# Altium integrated library TI Data Converters Digital to Analog Converter.IntLib: 1533 symbols (part 26 of 99)
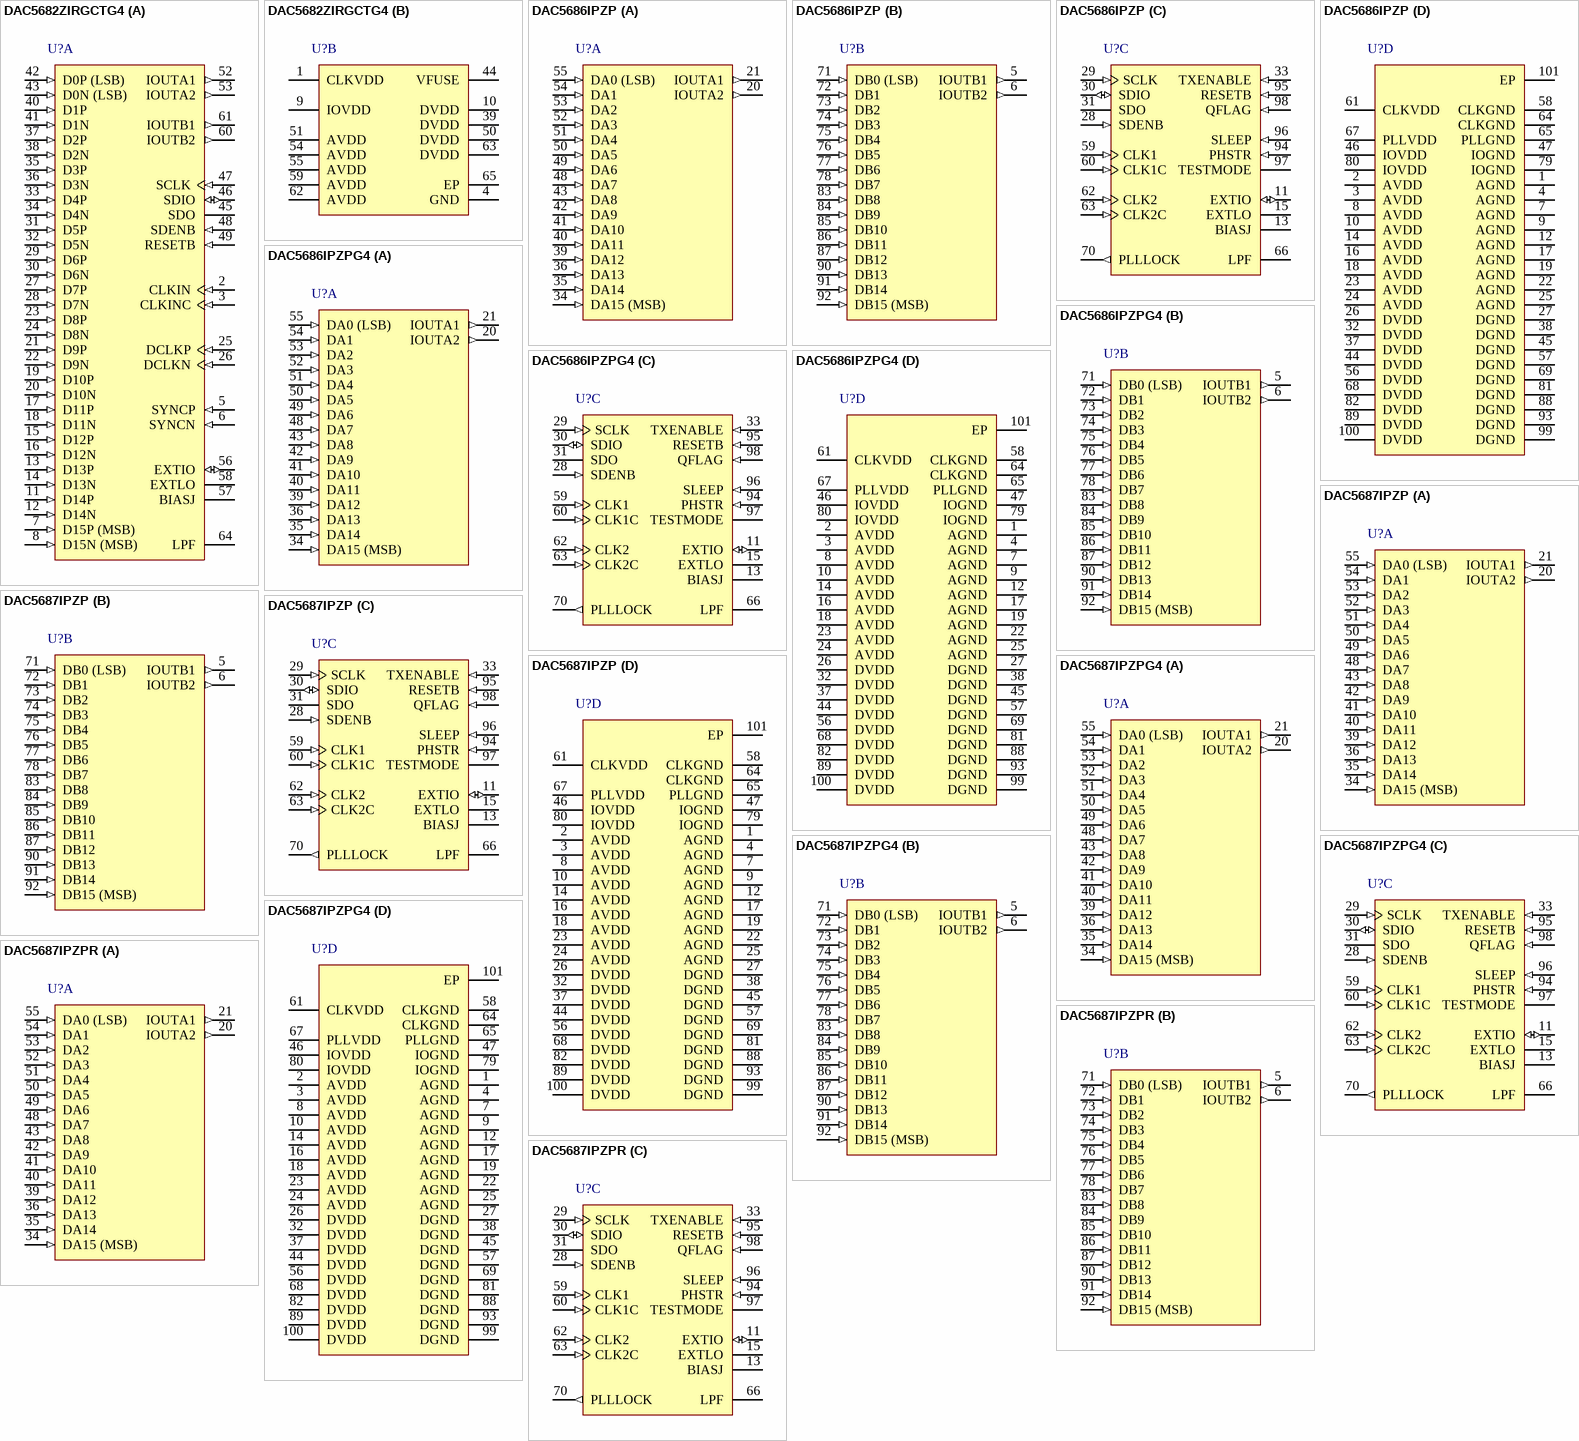
[diagram p98: symbols DAC5682ZIRGCTG4 to DAC5687IPZPR]

## DAC5682ZIRGCTG4
designator U?
16-Bit, 1 GSPS 2 x - 4 x Interpolating Dual-Channel DAC, -40 to 85 degC, 64-pin QFN (RGC64), Green (RoHS & no Sb/Br); Manufacturer: Texas Instruments; PartNumber: DAC5682ZIRGCTG4; DAC Channels: 2; Interface: Parallel LVDS; Power Consumption(Typ)(mW): 1310; Resolution(Bits): 16; Settling Time(us): 0.0104; SFDR(dB): 81; SNR(dB): 75; SubFamily: High Speed DAC (>10MSPS); DatasheetVersion: SLLS853E; PackageVersion: 4204106/F, 11/2011; PackageReference: RGC64-7400X7400TP; PackageDescription: 64-Pin Plastic Quad Flatpack No-Lead, Body 9 x 9 mm, Pitch 0.5 mm; Supplier 1: Digi-Key; Supplier Part Number 1: DAC5682ZIRGCTG4-ND; Supplier 2: Mouser; Supplier Part Number 2: 595-DAC5682ZIRGCTG4; Eco-Plan: Green (RoHS & no Sb/Br); Mounting Technology: Surface Mount; ComponentLink1Description: Manufacturer URL; ComponentLink1URL: http://www.ti.com/; ComponentLink2Description: Datasheet; ComponentLink2URL: http://www.ti.com/general/docs/lit/getliterature.tsp?genericPartNumber=DAC5682Z&fileType=pdf; ComponentLink3Description: Package Specification; ComponentLink3URL: http://www.ti.com/litv/pdf/mpqf125e
footprint TI-RGC64-7400X7400TP_V (QFN, 64-Leads, Body 9x9mm, Pitch 0.5mm, Thermal Pad 7.4x7.4mm, TI Recommended)
part A pins: 2 CLKIN (in) "Positive external clock input with a self-bias of approximately CLKVDD/2.", 3 CLKINC (in) "Complementary external clock input. (See the CLKIN description)", 5 SYNCP (in) "LVDS SYNC positive input data. The SYNCP/N LVDS pair has an internal 100 ohm termination resistor. By default, the SYNCP/N input must be logic ‘1’ to enable a DAC analog output. See the LVDS SYNCP/N Operation paragr(See Datasheet)", 6 SYNCN (in) "LVDS SYNC negative input data.", 7 D15P (MSB) (in) "LVDS positive input data bits 0 through 15.Each positive/negative LVDS pair has an internal 100 ohm termination resistor. Order of bus can be reversed via rev_bus bit in CONFIG5 register. Data format relative to DCLKP/N (See Datasheet)", 8 D15N (MSB) (in) "LVDS negative input data bits 0 through 15. (See D[15:0]P description above) D15N is most significant data bit (MSB) - pin 8   D0N is least significant data bit (LSB) - pin 43", 11 D14P (in) "LVDS positive input data bits 0 through 15.Each positive/negative LVDS pair has an internal 100 ohm termination resistor. Order of bus can be reversed via rev_bus bit in CONFIG5 register. Data format relative to DCLKP/N (See Datasheet)", 12 D14N (in) "LVDS negative input data bits 0 through 15. (See D[15:0]P description above) D15N is most significant data bit (MSB) - pin 8   D0N is least significant data bit (LSB) - pin 43", 13 D13P (in) "LVDS positive input data bits 0 through 15.Each positive/negative LVDS pair has an internal 100 ohm termination resistor. Order of bus can be reversed via rev_bus bit in CONFIG5 register. Data format relative to DCLKP/N (See Datasheet)", 14 D13N (in) "LVDS negative input data bits 0 through 15. (See D[15:0]P description above) D15N is most significant data bit (MSB) - pin 8   D0N is least significant data bit (LSB) - pin 43", 15 D12P (in) "LVDS positive input data bits 0 through 15.Each positive/negative LVDS pair has an internal 100 ohm termination resistor. Order of bus can be reversed via rev_bus bit in CONFIG5 register. Data format relative to DCLKP/N (See Datasheet)", 16 D12N (in) "LVDS negative input data bits 0 through 15. (See D[15:0]P description above) D15N is most significant data bit (MSB) - pin 8   D0N is least significant data bit (LSB) - pin 43", 17 D11P (in) "LVDS positive input data bits 0 through 15.Each positive/negative LVDS pair has an internal 100 ohm termination resistor. Order of bus can be reversed via rev_bus bit in CONFIG5 register. Data format relative to DCLKP/N (See Datasheet)", 18 D11N (in) "LVDS negative input data bits 0 through 15. (See D[15:0]P description above) D15N is most significant data bit (MSB) - pin 8   D0N is least significant data bit (LSB) - pin 43", 19 D10P (in) "LVDS positive input data bits 0 through 15.Each positive/negative LVDS pair has an internal 100 ohm termination resistor. Order of bus can be reversed via rev_bus bit in CONFIG5 register. Data format relative to DCLKP/N (See Datasheet)", 20 D10N (in) "LVDS negative input data bits 0 through 15. (See D[15:0]P description above) D15N is most significant data bit (MSB) - pin 8   D0N is least significant data bit (LSB) - pin 43", 21 D9P (in) "LVDS positive input data bits 0 through 15.Each positive/negative LVDS pair has an internal 100 ohm termination resistor. Order of bus can be reversed via rev_bus bit in CONFIG5 register. Data format relative to DCLKP/N (See Datasheet)", 22 D9N (in) "LVDS negative input data bits 0 through 15. (See D[15:0]P description above) D15N is most significant data bit (MSB) - pin 8   D0N is least significant data bit (LSB) - pin 43", 23 D8P (in) "LVDS positive input data bits 0 through 15.Each positive/negative LVDS pair has an internal 100 ohm termination resistor. Order of bus can be reversed via rev_bus bit in CONFIG5 register. Data format relative to DCLKP/N (See Datasheet)", 24 D8N (in) "LVDS negative input data bits 0 through 15. (See D[15:0]P description above) D15N is most significant data bit (MSB) - pin 8   D0N is least significant data bit (LSB) - pin 43", 25 DCLKP (in) "LVDS positive input clock. Unlike the other LVDS inputs, the DCLKP/N pair is self-biased to approximately DVDD/2 and does not have an internal termination resistor in order to optimize operation of the DLL circuit.See the (See Datasheet)", 26 DCLKN (in) "LVDS negative input clock. (See the DCLKP description)", 27 D7P (in) "LVDS positive input data bits 0 through 15.Each positive/negative LVDS pair has an internal 100 ohm termination resistor. Order of bus can be reversed via rev_bus bit in CONFIG5 register. Data format relative to DCLKP/N (See Datasheet)", 28 D7N (in) "LVDS negative input data bits 0 through 15. (See D[15:0]P description above) D15N is most significant data bit (MSB) - pin 8   D0N is least significant data bit (LSB) - pin 43", 29 D6P (in) "LVDS positive input data bits 0 through 15.Each positive/negative LVDS pair has an internal 100 ohm termination resistor. Order of bus can be reversed via rev_bus bit in CONFIG5 register. Data format relative to DCLKP/N (See Datasheet)", 30 D6N (in) "LVDS negative input data bits 0 through 15. (See D[15:0]P description above) D15N is most significant data bit (MSB) - pin 8   D0N is least significant data bit (LSB) - pin 43", 31 D5P (in) "LVDS positive input data bits 0 through 15.Each positive/negative LVDS pair has an internal 100 ohm termination resistor. Order of bus can be reversed via rev_bus bit in CONFIG5 register. Data format relative to DCLKP/N (See Datasheet)", 32 D5N (in) "LVDS negative input data bits 0 through 15. (See D[15:0]P description above) D15N is most significant data bit (MSB) - pin 8   D0N is least significant data bit (LSB) - pin 43", 33 D4P (in) "LVDS positive input data bits 0 through 15.Each positive/negative LVDS pair has an internal 100 ohm termination resistor. Order of bus can be reversed via rev_bus bit in CONFIG5 register. Data format relative to DCLKP/N (See Datasheet)", 34 D4N (in) "LVDS negative input data bits 0 through 15. (See D[15:0]P description above) D15N is most significant data bit (MSB) - pin 8   D0N is least significant data bit (LSB) - pin 43", 35 D3P (in) "LVDS positive input data bits 0 through 15.Each positive/negative LVDS pair has an internal 100 ohm termination resistor. Order of bus can be reversed via rev_bus bit in CONFIG5 register. Data format relative to DCLKP/N (See Datasheet)", 36 D3N (in) "LVDS negative input data bits 0 through 15. (See D[15:0]P description above) D15N is most significant data bit (MSB) - pin 8   D0N is least significant data bit (LSB) - pin 43", 37 D2P (in) "LVDS positive input data bits 0 through 15.Each positive/negative LVDS pair has an internal 100 ohm termination resistor. Order of bus can be reversed via rev_bus bit in CONFIG5 register. Data format relative to DCLKP/N (See Datasheet)", 38 D2N (in) "LVDS negative input data bits 0 through 15. (See D[15:0]P description above) D15N is most significant data bit (MSB) - pin 8   D0N is least significant data bit (LSB) - pin 43", 40 D1P (in) "LVDS positive input data bits 0 through 15.Each positive/negative LVDS pair has an internal 100 ohm termination resistor. Order of bus can be reversed via rev_bus bit in CONFIG5 register. Data format relative to DCLKP/N (See Datasheet)", 41 D1N (in) "LVDS negative input data bits 0 through 15. (See D[15:0]P description above) D15N is most significant data bit (MSB) - pin 8   D0N is least significant data bit (LSB) - pin 43", 42 D0P (LSB) (in) "LVDS positive input data bits 0 through 15.Each positive/negative LVDS pair has an internal 100 ohm termination resistor. Order of bus can be reversed via rev_bus bit in CONFIG5 register. Data format relative to DCLKP/N (See Datasheet)", 43 D0N (LSB) (in) "LVDS negative input data bits 0 through 15. (See D[15:0]P description above) D15N is most significant data bit (MSB) - pin 8   D0N is least significant data bit (LSB) - pin 43", 45 SDO (hiz) "Uni-directional serial interface data in 4-pin mode (CONFIG5 sif4). The SDO pin is in high-impedance state in 3-pin interface mode (default), but can optionally be used as a status output pin via CONFIG14 SDO_func_sel(2:0). (See Datasheet)", 46 SDIO (io) "Bi-directional serial interface data in 3-pin mode (default). In 4-pin interface mode (CONFIG5 sif4), the SDIO pin is an input only. Internal pull-down.", 47 SCLK (in) "Serial interface clock. Internal pull-down", 48 SDENB (in) "Active low serial data enable, always an input to the DAC5681. Internal pull-up.", 49 RESETB (in) "Resets the chip when low. Internal pull-up.", 52 IOUTA1 (out) "DAC current output. An offset binary data pattern of 0x0000 at the DAC input results in a full scale current sink and the least positive voltage on the IOUTA1 pin. Similarly, a 0xFFFF data input results in a 0 mA current (See Datasheet)", 53 IOUTA2 (out) "DAC complementary current output. The IOUTA2 has the opposite behavior of the IOUTA1 described above. An input data value of 0x0000 results in a 0mA sink and the most positive voltage on the IOUTA2 pin.", 56 EXTIO (io) "Used as external reference input when internal reference is disabled (i.e., EXTLO connected to AVDD). Used as 1.2V internal reference output when EXTLO = GND, requires a 0.1 uF decoupling capacitor to AGND when used as (See Datasheet)", 57 BIASJ "Full-scale output current bias. For 20mA full-scale output current, connect a 960 ohm resistor to GND.", 58 EXTLO "Connect to GND for internal reference, or AVDD for external reference.", 60 IOUTB2 (out) "B-Channel DAC complementary current output. See the IOUTA2 description above.", 61 IOUTB1 (out) "B-Channel DAC current output. See the IOUTA1 description above.", 64 LPF "PLL loop filter connection. If not using the clock multiplying PLL, the LPF pin may be left open. Set both PLL_bypass and PLL_sleep control bits for reduced power dissipation."
part B pins: 1 CLKVDD (power) "Internal clock buffer supply voltage. (1.8 V)", 4 GND (power) "Pin 4 and the Thermal Pad located on the bottom of the QFN package is ground for AVDD, DVDD and IOVDD supplies.", 9 IOVDD (power) "Digital I/O supply voltage (3.3V) for pins RESETB, SCLK, SDENB, SDIO, SDO.", 10 DVDD (power) "Digital supply voltage. (1.8 V)", 39 DVDD (power) "Digital supply voltage. (1.8 V)", 44 VFUSE (power) "Digital supply voltage. (1.8V) Connect to DVDD pins for normal operation. This supply pin is also used for factory fuse programming.", 50 DVDD (power) "Digital supply voltage. (1.8 V)", 51 AVDD (power) "Analog supply voltage. (3.3V)", 54 AVDD (power) "Analog supply voltage. (3.3V)", 55 AVDD (power) "Analog supply voltage. (3.3V)", 59 AVDD (power) "Analog supply voltage. (3.3V)", 62 AVDD (power) "Analog supply voltage. (3.3V)", 63 DVDD (power) "Digital supply voltage. (1.8 V)", 65 EP (power) "Pin 4 and the Thermal Pad located on the bottom of the QFN package is ground for AVDD, DVDD and IOVDD supplies."

## DAC5686IPZP
designator U?
16-Bit 500 MSPS Dual DAC, 16 x Interpolation, High-Performance, -40 to 85 degC, 100-pin QFP (PZP100), Green (RoHS & no Sb/Br); Manufacturer: Texas Instruments; PartNumber: DAC5686IPZP; DAC Channels: 2; DNL(Max)(+/-LSB): 9; INL(Max)(+/-LSB): 12; Interface: Parallel CMOS; Power Consumption(Typ)(mW): 445; Resolution(Bits): 16; Settling Time(us): 0.012; SFDR(dB): 72; SubFamily: High Speed DAC (>10MSPS); DatasheetVersion: SLWS147F; PackageVersion: 4146929/C, 09/2011; PackageReference: PZP100-5445X5445TP; PackageDescription: 100-Lead, Plastic Flat Pack, Body Size 14 x 14 mm, Pitch 0.5 mm; Supplier 1: Digi-Key; Supplier Part Number 1: 296-16695-5-ND; Supplier 2: Newark; Supplier Part Number 2: 90H1175; Supplier 3: Mouser; Supplier Part Number 3: 595-DAC5686IPZP; Eco-Plan: Green (RoHS & no Sb/Br); SNR(dB): 72; Mounting Technology: Surface Mount; Code_JEDEC: MS-026; ComponentLink1Description: Manufacturer URL; ComponentLink1URL: http://www.ti.com/; ComponentLink2Description: Datasheet; ComponentLink2URL: http://www.ti.com/general/docs/lit/getliterature.tsp?genericPartNumber=DAC5686&fileType=pdf; ComponentLink3Description: Package Specification; ComponentLink3URL: http://www.ti.com/litv/pdf/mpqf053b
footprint TI-PZP100-5445X5445TP_N (QFP, 100-Leads, Body 14x14mm, Pitch 0.5mm, Thermal Pad 5.445x5.445mm, IPC Medium Density)
footprint TI-PZP100-5445X5445TP_L (QFP, 100-Leads, Body 14x14mm, Pitch 0.5mm, Thermal Pad 5.445x5.445mm, IPC High Density)
footprint TI-PZP100-5445X5445TP_M (QFP, 100-Leads, Body 14x14mm, Pitch 0.5mm, Thermal Pad 5.445x5.445mm, IPC Low Density)
part A pins: 20 IOUTA2 (out) "A-channel DAC complementary current output. Full scale when all input bits are set to 0", 21 IOUTA1 (out) "A-channel DAC current output. Full scale when all input bits are set to 1", 34 DA15 (MSB) (in) "A-channel data bits 0 through 15. DA15 is most significant data bit (MSB). DA0 is least significant data bit (LSB). Internal pulldown", 35 DA14 (in) "A-channel data bits 0 through 15. DA15 is most significant data bit (MSB). DA0 is least significant data bit (LSB). Internal pulldown", 36 DA13 (in) "A-channel data bits 0 through 15. DA15 is most significant data bit (MSB). DA0 is least significant data bit (LSB). Internal pulldown", 39 DA12 (in) "A-channel data bits 0 through 15. DA15 is most significant data bit (MSB). DA0 is least significant data bit (LSB). Internal pulldown", 40 DA11 (in) "A-channel data bits 0 through 15. DA15 is most significant data bit (MSB). DA0 is least significant data bit (LSB). Internal pulldown", 41 DA10 (in) "A-channel data bits 0 through 15. DA15 is most significant data bit (MSB). DA0 is least significant data bit (LSB). Internal pulldown", 42 DA9 (in) "A-channel data bits 0 through 15. DA15 is most significant data bit (MSB). DA0 is least significant data bit (LSB). Internal pulldown", 43 DA8 (in) "A-channel data bits 0 through 15. DA15 is most significant data bit (MSB). DA0 is least significant data bit (LSB). Internal pulldown", 48 DA7 (in) "A-channel data bits 0 through 15. DA15 is most significant data bit (MSB). DA0 is least significant data bit (LSB). Internal pulldown", 49 DA6 (in) "A-channel data bits 0 through 15. DA15 is most significant data bit (MSB). DA0 is least significant data bit (LSB). Internal pulldown", 50 DA5 (in) "A-channel data bits 0 through 15. DA15 is most significant data bit (MSB). DA0 is least significant data bit (LSB). Internal pulldown", 51 DA4 (in) "A-channel data bits 0 through 15. DA15 is most significant data bit (MSB). DA0 is least significant data bit (LSB). Internal pulldown", 52 DA3 (in) "A-channel data bits 0 through 15. DA15 is most significant data bit (MSB). DA0 is least significant data bit (LSB). Internal pulldown", 53 DA2 (in) "A-channel data bits 0 through 15. DA15 is most significant data bit (MSB). DA0 is least significant data bit (LSB). Internal pulldown", 54 DA1 (in) "A-channel data bits 0 through 15. DA15 is most significant data bit (MSB). DA0 is least significant data bit (LSB). Internal pulldown", 55 DA0 (LSB) (in) "A-channel data bits 0 through 15. DA15 is most significant data bit (MSB). DA0 is least significant data bit (LSB). Internal pulldown"
part B pins: 5 IOUTB1 (out) "B-channel DAC current output. Full scale when all input bits are set to 1", 6 IOUTB2 (out) "B-channel DAC complementary current output. Full scale when all input bits are set to 0", 71 DB0 (LSB) (in) "B-channel data bits 0 through 15. DB15 is most significant data bit (MSB). DB0 is least significant data bit (LSB). Internal pulldown Note: The order of the B data bus can be reversed by register rev_bbus.", 72 DB1 (in) "B-channel data bits 0 through 15. DB15 is most significant data bit (MSB). DB0 is least significant data bit (LSB). Internal pulldown Note: The order of the B data bus can be reversed by register rev_bbus.", 73 DB2 (in) "B-channel data bits 0 through 15. DB15 is most significant data bit (MSB). DB0 is least significant data bit (LSB). Internal pulldown Note: The order of the B data bus can be reversed by register rev_bbus.", 74 DB3 (in) "B-channel data bits 0 through 15. DB15 is most significant data bit (MSB). DB0 is least significant data bit (LSB). Internal pulldown Note: The order of the B data bus can be reversed by register rev_bbus.", 75 DB4 (in) "B-channel data bits 0 through 15. DB15 is most significant data bit (MSB). DB0 is least significant data bit (LSB). Internal pulldown Note: The order of the B data bus can be reversed by register rev_bbus.", 76 DB5 (in) "B-channel data bits 0 through 15. DB15 is most significant data bit (MSB). DB0 is least significant data bit (LSB). Internal pulldown Note: The order of the B data bus can be reversed by register rev_bbus.", 77 DB6 (in) "B-channel data bits 0 through 15. DB15 is most significant data bit (MSB). DB0 is least significant data bit (LSB). Internal pulldown Note: The order of the B data bus can be reversed by register rev_bbus.", 78 DB7 (in) "B-channel data bits 0 through 15. DB15 is most significant data bit (MSB). DB0 is least significant data bit (LSB). Internal pulldown Note: The order of the B data bus can be reversed by register rev_bbus.", 83 DB8 (in) "B-channel data bits 0 through 15. DB15 is most significant data bit (MSB). DB0 is least significant data bit (LSB). Internal pulldown Note: The order of the B data bus can be reversed by register rev_bbus.", 84 DB9 (in) "B-channel data bits 0 through 15. DB15 is most significant data bit (MSB). DB0 is least significant data bit (LSB). Internal pulldown Note: The order of the B data bus can be reversed by register rev_bbus.", 85 DB10 (in) "B-channel data bits 0 through 15. DB15 is most significant data bit (MSB). DB0 is least significant data bit (LSB). Internal pulldown Note: The order of the B data bus can be reversed by register rev_bbus.", 86 DB11 (in) "B-channel data bits 0 through 15. DB15 is most significant data bit (MSB). DB0 is least significant data bit (LSB). Internal pulldown Note: The order of the B data bus can be reversed by register rev_bbus.", 87 DB12 (in) "B-channel data bits 0 through 15. DB15 is most significant data bit (MSB). DB0 is least significant data bit (LSB). Internal pulldown Note: The order of the B data bus can be reversed by register rev_bbus.", 90 DB13 (in) "B-channel data bits 0 through 15. DB15 is most significant data bit (MSB). DB0 is least significant data bit (LSB). Internal pulldown Note: The order of the B data bus can be reversed by register rev_bbus.", 91 DB14 (in) "B-channel data bits 0 through 15. DB15 is most significant data bit (MSB). DB0 is least significant data bit (LSB). Internal pulldown Note: The order of the B data bus can be reversed by register rev_bbus.", 92 DB15 (MSB) (in) "B-channel data bits 0 through 15. DB15 is most significant data bit (MSB). DB0 is least significant data bit (LSB). Internal pulldown Note: The order of the B data bus can be reversed by register rev_bbus."
part C pins: 11 EXTIO (io) "Used as external reference input when internal reference is disabled (i.e., EXTLO connected to AVDD). Used as internal reference output when EXTLO = AGND, requires a 0.1-uF decoupling capacitor to AGND when used as reference (See Datasheet)", 13 BIASJ "Full-scale output current bias", 15 EXTLO "Internal reference ground. Connect to AVDD to disable the internal reference", 28 SDENB (in) "Active-low serial data enable, always an input to the DAC5686. Internal pulldown", 29 SCLK (in) "Serial interface clock. Internal pulldown", 30 SDIO (io) "Bidirectional serial-port data in the three-pin serial interface mode. Input-only serial data in the four-pin serial interface mode. Internal pulldown", 31 SDO (hiz) "High-impedance state (the pin is not used) in the three-pin serial interface mode. Serial-port output data in the four-pin serial interface mode.", 33 TXENABLE (in) "TxENABLE is used in interleaved mode. The rising edge of TxENABLE synchronizes the data of channels A and B. The first data after the rising edge of TxENABLE is treated as A data, while the next data is treated as B data and (See Datasheet)", 59 CLK1 (in) "External clock input; data clock input", 60 CLK1C (in) "Complementary external clock input; data clock input", 62 CLK2 (in) "External clock input; sample clock for the DAC (optional if PLL disabled)", 63 CLK2C (in) "Complementary external clock input; sample clock for the DAC (optional if PLL disabled)", 66 LPF "PLL loop filter connection. Can be left open or connected to GND if PLL is not used (PLLVDD = 0 V).", 70 PLLLOCK (out) "PLL lock status bit. In PLL clock mode, PLLLOCK is high when PLL is locked to the input clock. In external clock mode, PLLLOCK outputs the input rate clock.", 94 PHSTR (in) "The PHSTR pin has two functions. When the sync_phstr register is 0, a high on the PHSTR pin resets the NCO phase accumulator. When the sync_phstr register is 1, a PHSTR pin low-to-high transition sets the divided clock phase (See Datasheet)", 95 RESETB (in) "Resets the chip when low. Internal pullup", 96 SLEEP (in) "Asynchronous hardware power-down input. Active high. Internal pulldown", 97 TESTMODE "TESTMODE is DGND for the user", 98 QFLAG (in) "Used in the interleaved data input mode: When the qflag register bit is 1, the QFLAG pin is used as an input to identify the interleaved data sequence. QFLAG high identifies the data as channel B. Pin can be left open when (See Datasheet)"
part D pins: 1 AGND (power) "Analog ground return", 2 AVDD (power) "Analog supply voltage", 3 AVDD (power) "Analog supply voltage", 4 AGND (power) "Analog ground return", 7 AGND (power) "Analog ground return", 8 AVDD (power) "Analog supply voltage", 9 AGND (power) "Analog ground return", 10 AVDD (power) "Analog supply voltage", 12 AGND (power) "Analog ground return", 14 AVDD (power) "Analog supply voltage", 16 AVDD (power) "Analog supply voltage", 17 AGND (power) "Analog ground return", 18 AVDD (power) "Analog supply voltage", 19 AGND (power) "Analog ground return", 22 AGND (power) "Analog ground return", 23 AVDD (power) "Analog supply voltage", 24 AVDD (power) "Analog supply voltage", 25 AGND (power) "Analog ground return", 26 DVDD (power) "Digital supply voltage", 27 DGND (power) "Digital ground return", 32 DVDD (power) "Digital supply voltage", 37 DVDD (power) "Digital supply voltage", 38 DGND (power) "Digital ground return", 44 DVDD (power) "Digital supply voltage", 45 DGND (power) "Digital ground return", 46 IOVDD (power) "Digital I/O supply voltage", 47 IOGND (power) "Digital I/O ground return", 56 DVDD (power) "Digital supply voltage", 57 DGND (power) "Digital ground return", 58 CLKGND (power) "Ground return for internal clock buffer", 61 CLKVDD (power) "Internal clock buffer supply voltage", 64 CLKGND (power) "Ground return for internal clock buffer", 65 PLLGND (power) "Ground return for internal PLL", 67 PLLVDD (power) "PLL supply voltage. When PLLVDD is 0 V, the PLL is disabled.", 68 DVDD (power) "Digital supply voltage", 69 DGND (power) "Digital ground return", 79 IOGND (power) "Digital I/O ground return", 80 IOVDD (power) "Digital I/O supply voltage", 81 DGND (power) "Digital ground return", 82 DVDD (power) "Digital supply voltage", 88 DGND (power) "Digital ground return", 89 DVDD (power) "Digital supply voltage", 93 DGND (power) "Digital ground return", 99 DGND (power) "Digital ground return", 100 DVDD (power) "Digital supply voltage", 101 EP

## DAC5686IPZPG4
designator U?
16-Bit 500 MSPS Dual DAC, 16 x Interpolation, High-Performance, -40 to 85 degC, 100-pin QFP (PZP100), Green (RoHS & no Sb/Br); Manufacturer: Texas Instruments; PartNumber: DAC5686IPZPG4; DAC Channels: 2; DNL(Max)(+/-LSB): 9; INL(Max)(+/-LSB): 12; Interface: Parallel CMOS; Power Consumption(Typ)(mW): 445; Resolution(Bits): 16; Settling Time(us): 0.012; SFDR(dB): 72; SubFamily: High Speed DAC (>10MSPS); DatasheetVersion: SLWS147F; PackageVersion: 4146929/C, 09/2011; PackageReference: PZP100-5445X5445TP; PackageDescription: 100-Lead, Plastic Flat Pack, Body Size 14 x 14 mm, Pitch 0.5 mm; Supplier 1: Digi-Key; Supplier Part Number 1: DAC5686IPZPG4-ND; Supplier 2: Newark; Supplier Part Number 2: 24K4538; Supplier 3: Mouser; Supplier Part Number 3: 595-DAC5686IPZPG4; Eco-Plan: Green (RoHS & no Sb/Br); SNR(dB): 72; Mounting Technology: Surface Mount; Code_JEDEC: MS-026; ComponentLink1Description: Manufacturer URL; ComponentLink1URL: http://www.ti.com/; ComponentLink2Description: Datasheet; ComponentLink2URL: http://www.ti.com/general/docs/lit/getliterature.tsp?genericPartNumber=DAC5686&fileType=pdf; ComponentLink3Description: Package Specification; ComponentLink3URL: http://www.ti.com/litv/pdf/mpqf053b
footprint TI-PZP100-5445X5445TP_N (QFP, 100-Leads, Body 14x14mm, Pitch 0.5mm, Thermal Pad 5.445x5.445mm, IPC Medium Density)
footprint TI-PZP100-5445X5445TP_L (QFP, 100-Leads, Body 14x14mm, Pitch 0.5mm, Thermal Pad 5.445x5.445mm, IPC High Density)
footprint TI-PZP100-5445X5445TP_M (QFP, 100-Leads, Body 14x14mm, Pitch 0.5mm, Thermal Pad 5.445x5.445mm, IPC Low Density)
part A pins: 20 IOUTA2 (out) "A-channel DAC complementary current output. Full scale when all input bits are set to 0", 21 IOUTA1 (out) "A-channel DAC current output. Full scale when all input bits are set to 1", 34 DA15 (MSB) (in) "A-channel data bits 0 through 15. DA15 is most significant data bit (MSB). DA0 is least significant data bit (LSB). Internal pulldown", 35 DA14 (in) "A-channel data bits 0 through 15. DA15 is most significant data bit (MSB). DA0 is least significant data bit (LSB). Internal pulldown", 36 DA13 (in) "A-channel data bits 0 through 15. DA15 is most significant data bit (MSB). DA0 is least significant data bit (LSB). Internal pulldown", 39 DA12 (in) "A-channel data bits 0 through 15. DA15 is most significant data bit (MSB). DA0 is least significant data bit (LSB). Internal pulldown", 40 DA11 (in) "A-channel data bits 0 through 15. DA15 is most significant data bit (MSB). DA0 is least significant data bit (LSB). Internal pulldown", 41 DA10 (in) "A-channel data bits 0 through 15. DA15 is most significant data bit (MSB). DA0 is least significant data bit (LSB). Internal pulldown", 42 DA9 (in) "A-channel data bits 0 through 15. DA15 is most significant data bit (MSB). DA0 is least significant data bit (LSB). Internal pulldown", 43 DA8 (in) "A-channel data bits 0 through 15. DA15 is most significant data bit (MSB). DA0 is least significant data bit (LSB). Internal pulldown", 48 DA7 (in) "A-channel data bits 0 through 15. DA15 is most significant data bit (MSB). DA0 is least significant data bit (LSB). Internal pulldown", 49 DA6 (in) "A-channel data bits 0 through 15. DA15 is most significant data bit (MSB). DA0 is least significant data bit (LSB). Internal pulldown", 50 DA5 (in) "A-channel data bits 0 through 15. DA15 is most significant data bit (MSB). DA0 is least significant data bit (LSB). Internal pulldown", 51 DA4 (in) "A-channel data bits 0 through 15. DA15 is most significant data bit (MSB). DA0 is least significant data bit (LSB). Internal pulldown", 52 DA3 (in) "A-channel data bits 0 through 15. DA15 is most significant data bit (MSB). DA0 is least significant data bit (LSB). Internal pulldown", 53 DA2 (in) "A-channel data bits 0 through 15. DA15 is most significant data bit (MSB). DA0 is least significant data bit (LSB). Internal pulldown", 54 DA1 (in) "A-channel data bits 0 through 15. DA15 is most significant data bit (MSB). DA0 is least significant data bit (LSB). Internal pulldown", 55 DA0 (LSB) (in) "A-channel data bits 0 through 15. DA15 is most significant data bit (MSB). DA0 is least significant data bit (LSB). Internal pulldown"
part B pins: 5 IOUTB1 (out) "B-channel DAC current output. Full scale when all input bits are set to 1", 6 IOUTB2 (out) "B-channel DAC complementary current output. Full scale when all input bits are set to 0", 71 DB0 (LSB) (in) "B-channel data bits 0 through 15. DB15 is most significant data bit (MSB). DB0 is least significant data bit (LSB). Internal pulldown Note: The order of the B data bus can be reversed by register rev_bbus.", 72 DB1 (in) "B-channel data bits 0 through 15. DB15 is most significant data bit (MSB). DB0 is least significant data bit (LSB). Internal pulldown Note: The order of the B data bus can be reversed by register rev_bbus.", 73 DB2 (in) "B-channel data bits 0 through 15. DB15 is most significant data bit (MSB). DB0 is least significant data bit (LSB). Internal pulldown Note: The order of the B data bus can be reversed by register rev_bbus.", 74 DB3 (in) "B-channel data bits 0 through 15. DB15 is most significant data bit (MSB). DB0 is least significant data bit (LSB). Internal pulldown Note: The order of the B data bus can be reversed by register rev_bbus.", 75 DB4 (in) "B-channel data bits 0 through 15. DB15 is most significant data bit (MSB). DB0 is least significant data bit (LSB). Internal pulldown Note: The order of the B data bus can be reversed by register rev_bbus.", 76 DB5 (in) "B-channel data bits 0 through 15. DB15 is most significant data bit (MSB). DB0 is least significant data bit (LSB). Internal pulldown Note: The order of the B data bus can be reversed by register rev_bbus.", 77 DB6 (in) "B-channel data bits 0 through 15. DB15 is most significant data bit (MSB). DB0 is least significant data bit (LSB). Internal pulldown Note: The order of the B data bus can be reversed by register rev_bbus.", 78 DB7 (in) "B-channel data bits 0 through 15. DB15 is most significant data bit (MSB). DB0 is least significant data bit (LSB). Internal pulldown Note: The order of the B data bus can be reversed by register rev_bbus.", 83 DB8 (in) "B-channel data bits 0 through 15. DB15 is most significant data bit (MSB). DB0 is least significant data bit (LSB). Internal pulldown Note: The order of the B data bus can be reversed by register rev_bbus.", 84 DB9 (in) "B-channel data bits 0 through 15. DB15 is most significant data bit (MSB). DB0 is least significant data bit (LSB). Internal pulldown Note: The order of the B data bus can be reversed by register rev_bbus.", 85 DB10 (in) "B-channel data bits 0 through 15. DB15 is most significant data bit (MSB). DB0 is least significant data bit (LSB). Internal pulldown Note: The order of the B data bus can be reversed by register rev_bbus.", 86 DB11 (in) "B-channel data bits 0 through 15. DB15 is most significant data bit (MSB). DB0 is least significant data bit (LSB). Internal pulldown Note: The order of the B data bus can be reversed by register rev_bbus.", 87 DB12 (in) "B-channel data bits 0 through 15. DB15 is most significant data bit (MSB). DB0 is least significant data bit (LSB). Internal pulldown Note: The order of the B data bus can be reversed by register rev_bbus.", 90 DB13 (in) "B-channel data bits 0 through 15. DB15 is most significant data bit (MSB). DB0 is least significant data bit (LSB). Internal pulldown Note: The order of the B data bus can be reversed by register rev_bbus.", 91 DB14 (in) "B-channel data bits 0 through 15. DB15 is most significant data bit (MSB). DB0 is least significant data bit (LSB). Internal pulldown Note: The order of the B data bus can be reversed by register rev_bbus.", 92 DB15 (MSB) (in) "B-channel data bits 0 through 15. DB15 is most significant data bit (MSB). DB0 is least significant data bit (LSB). Internal pulldown Note: The order of the B data bus can be reversed by register rev_bbus."
part C pins: 11 EXTIO (io) "Used as external reference input when internal reference is disabled (i.e., EXTLO connected to AVDD). Used as internal reference output when EXTLO = AGND, requires a 0.1-uF decoupling capacitor to AGND when used as reference (See Datasheet)", 13 BIASJ "Full-scale output current bias", 15 EXTLO "Internal reference ground. Connect to AVDD to disable the internal reference", 28 SDENB (in) "Active-low serial data enable, always an input to the DAC5686. Internal pulldown", 29 SCLK (in) "Serial interface clock. Internal pulldown", 30 SDIO (io) "Bidirectional serial-port data in the three-pin serial interface mode. Input-only serial data in the four-pin serial interface mode. Internal pulldown", 31 SDO (hiz) "High-impedance state (the pin is not used) in the three-pin serial interface mode. Serial-port output data in the four-pin serial interface mode.", 33 TXENABLE (in) "TxENABLE is used in interleaved mode. The rising edge of TxENABLE synchronizes the data of channels A and B. The first data after the rising edge of TxENABLE is treated as A data, while the next data is treated as B data and (See Datasheet)", 59 CLK1 (in) "External clock input; data clock input", 60 CLK1C (in) "Complementary external clock input; data clock input", 62 CLK2 (in) "External clock input; sample clock for the DAC (optional if PLL disabled)", 63 CLK2C (in) "Complementary external clock input; sample clock for the DAC (optional if PLL disabled)", 66 LPF "PLL loop filter connection. Can be left open or connected to GND if PLL is not used (PLLVDD = 0 V).", 70 PLLLOCK (out) "PLL lock status bit. In PLL clock mode, PLLLOCK is high when PLL is locked to the input clock. In external clock mode, PLLLOCK outputs the input rate clock.", 94 PHSTR (in) "The PHSTR pin has two functions. When the sync_phstr register is 0, a high on the PHSTR pin resets the NCO phase accumulator. When the sync_phstr register is 1, a PHSTR pin low-to-high transition sets the divided clock phase (See Datasheet)", 95 RESETB (in) "Resets the chip when low. Internal pullup", 96 SLEEP (in) "Asynchronous hardware power-down input. Active high. Internal pulldown", 97 TESTMODE "TESTMODE is DGND for the user", 98 QFLAG (in) "Used in the interleaved data input mode: When the qflag register bit is 1, the QFLAG pin is used as an input to identify the interleaved data sequence. QFLAG high identifies the data as channel B. Pin can be left open when (See Datasheet)"
part D pins: 1 AGND (power) "Analog ground return", 2 AVDD (power) "Analog supply voltage", 3 AVDD (power) "Analog supply voltage", 4 AGND (power) "Analog ground return", 7 AGND (power) "Analog ground return", 8 AVDD (power) "Analog supply voltage", 9 AGND (power) "Analog ground return", 10 AVDD (power) "Analog supply voltage", 12 AGND (power) "Analog ground return", 14 AVDD (power) "Analog supply voltage", 16 AVDD (power) "Analog supply voltage", 17 AGND (power) "Analog ground return", 18 AVDD (power) "Analog supply voltage", 19 AGND (power) "Analog ground return", 22 AGND (power) "Analog ground return", 23 AVDD (power) "Analog supply voltage", 24 AVDD (power) "Analog supply voltage", 25 AGND (power) "Analog ground return", 26 DVDD (power) "Digital supply voltage", 27 DGND (power) "Digital ground return", 32 DVDD (power) "Digital supply voltage", 37 DVDD (power) "Digital supply voltage", 38 DGND (power) "Digital ground return", 44 DVDD (power) "Digital supply voltage", 45 DGND (power) "Digital ground return", 46 IOVDD (power) "Digital I/O supply voltage", 47 IOGND (power) "Digital I/O ground return", 56 DVDD (power) "Digital supply voltage", 57 DGND (power) "Digital ground return", 58 CLKGND (power) "Ground return for internal clock buffer", 61 CLKVDD (power) "Internal clock buffer supply voltage", 64 CLKGND (power) "Ground return for internal clock buffer", 65 PLLGND (power) "Ground return for internal PLL", 67 PLLVDD (power) "PLL supply voltage. When PLLVDD is 0 V, the PLL is disabled.", 68 DVDD (power) "Digital supply voltage", 69 DGND (power) "Digital ground return", 79 IOGND (power) "Digital I/O ground return", 80 IOVDD (power) "Digital I/O supply voltage", 81 DGND (power) "Digital ground return", 82 DVDD (power) "Digital supply voltage", 88 DGND (power) "Digital ground return", 89 DVDD (power) "Digital supply voltage", 93 DGND (power) "Digital ground return", 99 DGND (power) "Digital ground return", 100 DVDD (power) "Digital supply voltage", 101 EP

## DAC5687IPZP
designator U?
16-Bit, 500 MSPS 2 x- 8 x Interpolating Dual-Channel DAC, -40 to 85 degC, 100-pin QFP (PZP100), Green (RoHS & no Sb/Br); Manufacturer: Texas Instruments; PartNumber: DAC5687IPZP; DAC Channels: 2; Interface: Parallel CMOS; Power Consumption(Typ)(mW): 1410; Resolution(Bits): 16; Settling Time(us): 0.0104; SFDR(dB): 76; SNR(dB): 73; SubFamily: High Speed DAC (>10MSPS); DatasheetVersion: SLWS164E; PackageVersion: 4146929/C, 09/2011; PackageReference: PZP100-5445X5445TP; PackageDescription: 100-Lead, Plastic Flat Pack, Body Size 14 x 14 mm, Pitch 0.5 mm; Supplier 1: Digi-Key; Supplier Part Number 1: 296-17935-ND; Supplier 2: Farnell; Supplier Part Number 2: 1407725; Supplier 3: Newark; Supplier Part Number 3: 31K6715; Supplier 4: Mouser; Supplier Part Number 4: 595-DAC5687IPZP; Eco-Plan: Green (RoHS & no Sb/Br); Mounting Technology: Surface Mount; Code_JEDEC: MS-026; ComponentLink1Description: Manufacturer URL; ComponentLink1URL: http://www.ti.com/; ComponentLink2Description: Datasheet; ComponentLink2URL: http://www.ti.com/general/docs/lit/getliterature.tsp?genericPartNumber=DAC5687&fileType=pdf; ComponentLink3Description: Package Specification; ComponentLink3URL: http://www.ti.com/litv/pdf/mpqf053b
footprint TI-PZP100-5445X5445TP_N (QFP, 100-Leads, Body 14x14mm, Pitch 0.5mm, Thermal Pad 5.445x5.445mm, IPC Medium Density)
footprint TI-PZP100-5445X5445TP_L (QFP, 100-Leads, Body 14x14mm, Pitch 0.5mm, Thermal Pad 5.445x5.445mm, IPC High Density)
footprint TI-PZP100-5445X5445TP_M (QFP, 100-Leads, Body 14x14mm, Pitch 0.5mm, Thermal Pad 5.445x5.445mm, IPC Low Density)
part A pins: 20 IOUTA2 (out) "A-channel DAC complementary current output. Full scale when all input bits are set to 0", 21 IOUTA1 (out) "A-channel DAC current output. Full scale when all input bits are set to 1", 34 DA15 (MSB) (in) "A-channel data bits 0 through 15. DA15 is most significant data bit (MSB). DA0 is least significant data bit (LSB). Internal pulldown", 35 DA14 (in) "A-channel data bits 0 through 15. DA15 is most significant data bit (MSB). DA0 is least significant data bit (LSB). Internal pulldown", 36 DA13 (in) "A-channel data bits 0 through 15. DA15 is most significant data bit (MSB). DA0 is least significant data bit (LSB). Internal pulldown", 39 DA12 (in) "A-channel data bits 0 through 15. DA15 is most significant data bit (MSB). DA0 is least significant data bit (LSB). Internal pulldown", 40 DA11 (in) "A-channel data bits 0 through 15. DA15 is most significant data bit (MSB). DA0 is least significant data bit (LSB). Internal pulldown", 41 DA10 (in) "A-channel data bits 0 through 15. DA15 is most significant data bit (MSB). DA0 is least significant data bit (LSB). Internal pulldown", 42 DA9 (in) "A-channel data bits 0 through 15. DA15 is most significant data bit (MSB). DA0 is least significant data bit (LSB). Internal pulldown", 43 DA8 (in) "A-channel data bits 0 through 15. DA15 is most significant data bit (MSB). DA0 is least significant data bit (LSB). Internal pulldown", 48 DA7 (in) "A-channel data bits 0 through 15. DA15 is most significant data bit (MSB). DA0 is least significant data bit (LSB). Internal pulldown", 49 DA6 (in) "A-channel data bits 0 through 15. DA15 is most significant data bit (MSB). DA0 is least significant data bit (LSB). Internal pulldown", 50 DA5 (in) "A-channel data bits 0 through 15. DA15 is most significant data bit (MSB). DA0 is least significant data bit (LSB). Internal pulldown", 51 DA4 (in) "A-channel data bits 0 through 15. DA15 is most significant data bit (MSB). DA0 is least significant data bit (LSB). Internal pulldown", 52 DA3 (in) "A-channel data bits 0 through 15. DA15 is most significant data bit (MSB). DA0 is least significant data bit (LSB). Internal pulldown", 53 DA2 (in) "A-channel data bits 0 through 15. DA15 is most significant data bit (MSB). DA0 is least significant data bit (LSB). Internal pulldown", 54 DA1 (in) "A-channel data bits 0 through 15. DA15 is most significant data bit (MSB). DA0 is least significant data bit (LSB). Internal pulldown", 55 DA0 (LSB) (in) "A-channel data bits 0 through 15. DA15 is most significant data bit (MSB). DA0 is least significant data bit (LSB). Internal pulldown"
part B pins: 5 IOUTB1 (out) "B-channel DAC current output. Full scale when all input bits are set to 1", 6 IOUTB2 (out) "B-channel DAC complementary current output. Full scale when all input bits are set to 0", 71 DB0 (LSB) (in) "B-channel data bits 0 through 15. DB15 is most significant data bit (MSB). DB0 is least significant data bit (LSB). Internal pulldown Note: The order of the B data bus can be reversed by register rev_bbus.", 72 DB1 (in) "B-channel data bits 0 through 15. DB15 is most significant data bit (MSB). DB0 is least significant data bit (LSB). Internal pulldown Note: The order of the B data bus can be reversed by register rev_bbus.", 73 DB2 (in) "B-channel data bits 0 through 15. DB15 is most significant data bit (MSB). DB0 is least significant data bit (LSB). Internal pulldown Note: The order of the B data bus can be reversed by register rev_bbus.", 74 DB3 (in) "B-channel data bits 0 through 15. DB15 is most significant data bit (MSB). DB0 is least significant data bit (LSB). Internal pulldown Note: The order of the B data bus can be reversed by register rev_bbus.", 75 DB4 (in) "B-channel data bits 0 through 15. DB15 is most significant data bit (MSB). DB0 is least significant data bit (LSB). Internal pulldown Note: The order of the B data bus can be reversed by register rev_bbus.", 76 DB5 (in) "B-channel data bits 0 through 15. DB15 is most significant data bit (MSB). DB0 is least significant data bit (LSB). Internal pulldown Note: The order of the B data bus can be reversed by register rev_bbus.", 77 DB6 (in) "B-channel data bits 0 through 15. DB15 is most significant data bit (MSB). DB0 is least significant data bit (LSB). Internal pulldown Note: The order of the B data bus can be reversed by register rev_bbus.", 78 DB7 (in) "B-channel data bits 0 through 15. DB15 is most significant data bit (MSB). DB0 is least significant data bit (LSB). Internal pulldown Note: The order of the B data bus can be reversed by register rev_bbus.", 83 DB8 (in) "B-channel data bits 0 through 15. DB15 is most significant data bit (MSB). DB0 is least significant data bit (LSB). Internal pulldown Note: The order of the B data bus can be reversed by register rev_bbus.", 84 DB9 (in) "B-channel data bits 0 through 15. DB15 is most significant data bit (MSB). DB0 is least significant data bit (LSB). Internal pulldown Note: The order of the B data bus can be reversed by register rev_bbus.", 85 DB10 (in) "B-channel data bits 0 through 15. DB15 is most significant data bit (MSB). DB0 is least significant data bit (LSB). Internal pulldown Note: The order of the B data bus can be reversed by register rev_bbus.", 86 DB11 (in) "B-channel data bits 0 through 15. DB15 is most significant data bit (MSB). DB0 is least significant data bit (LSB). Internal pulldown Note: The order of the B data bus can be reversed by register rev_bbus.", 87 DB12 (in) "B-channel data bits 0 through 15. DB15 is most significant data bit (MSB). DB0 is least significant data bit (LSB). Internal pulldown Note: The order of the B data bus can be reversed by register rev_bbus.", 90 DB13 (in) "B-channel data bits 0 through 15. DB15 is most significant data bit (MSB). DB0 is least significant data bit (LSB). Internal pulldown Note: The order of the B data bus can be reversed by register rev_bbus.", 91 DB14 (in) "B-channel data bits 0 through 15. DB15 is most significant data bit (MSB). DB0 is least significant data bit (LSB). Internal pulldown Note: The order of the B data bus can be reversed by register rev_bbus.", 92 DB15 (MSB) (in) "B-channel data bits 0 through 15. DB15 is most significant data bit (MSB). DB0 is least significant data bit (LSB). Internal pulldown Note: The order of the B data bus can be reversed by register rev_bbus."
part C pins: 11 EXTIO (io) "Used as external reference input when internal reference is disabled (i.e., EXTLO connected to AVDD). Used as internal reference output when EXTLO = AGND, requires a 0.1-uF decoupling capacitor to AGND when used as reference (See Datasheet)", 13 BIASJ "Full-scale output current bias", 15 EXTLO "Internal reference ground. Connect to AVDD to disable the internal reference", 28 SDENB (in) "Active-low serial data enable, always an input to the DAC5686. Internal pulldown", 29 SCLK (in) "Serial interface clock. Internal pulldown", 30 SDIO (io) "Bidirectional serial-port data in the three-pin serial interface mode. Input-only serial data in the four-pin serial interface mode. Internal pulldown", 31 SDO (hiz) "High-impedance state (the pin is not used) in the three-pin serial interface mode. Serial-port output data in the four-pin serial interface mode.", 33 TXENABLE (in) "TxENABLE is used in interleaved mode. The rising edge of TxENABLE synchronizes the data of channels A and B. The first data after the rising edge of TxENABLE is treated as A data, while the next data is treated as B data and (See Datasheet)", 59 CLK1 (in) "External clock input; data clock input", 60 CLK1C (in) "Complementary external clock input; data clock input", 62 CLK2 (in) "External clock input; sample clock for the DAC (optional if PLL disabled)", 63 CLK2C (in) "Complementary external clock input; sample clock for the DAC (optional if PLL disabled)", 66 LPF "PLL loop filter connection. Can be left open or connected to GND if PLL is not used (PLLVDD = 0 V).", 70 PLLLOCK (out) "PLL lock status bit. In PLL clock mode, PLLLOCK is high when PLL is locked to the input clock. In external clock mode, PLLLOCK outputs the input rate clock.", 94 PHSTR (in) "The PHSTR pin has two functions. When the sync_phstr register is 0, a high on the PHSTR pin resets the NCO phase accumulator. When the sync_phstr register is 1, a PHSTR pin low-to-high transition sets the divided clock phase (See Datasheet)", 95 RESETB (in) "Resets the chip when low. Internal pullup", 96 SLEEP (in) "Asynchronous hardware power-down input. Active high. Internal pulldown", 97 TESTMODE "TESTMODE is DGND for the user", 98 QFLAG (in) "Used in the interleaved data input mode: When the qflag register bit is 1, the QFLAG pin is used as an input to identify the interleaved data sequence. QFLAG high identifies the data as channel B. Pin can be left open when (See Datasheet)"
part D pins: 1 AGND (power) "Analog ground return", 2 AVDD (power) "Analog supply voltage", 3 AVDD (power) "Analog supply voltage", 4 AGND (power) "Analog ground return", 7 AGND (power) "Analog ground return", 8 AVDD (power) "Analog supply voltage", 9 AGND (power) "Analog ground return", 10 AVDD (power) "Analog supply voltage", 12 AGND (power) "Analog ground return", 14 AVDD (power) "Analog supply voltage", 16 AVDD (power) "Analog supply voltage", 17 AGND (power) "Analog ground return", 18 AVDD (power) "Analog supply voltage", 19 AGND (power) "Analog ground return", 22 AGND (power) "Analog ground return", 23 AVDD (power) "Analog supply voltage", 24 AVDD (power) "Analog supply voltage", 25 AGND (power) "Analog ground return", 26 DVDD (power) "Digital supply voltage", 27 DGND (power) "Digital ground return", 32 DVDD (power) "Digital supply voltage", 37 DVDD (power) "Digital supply voltage", 38 DGND (power) "Digital ground return", 44 DVDD (power) "Digital supply voltage", 45 DGND (power) "Digital ground return", 46 IOVDD (power) "Digital I/O supply voltage", 47 IOGND (power) "Digital I/O ground return", 56 DVDD (power) "Digital supply voltage", 57 DGND (power) "Digital ground return", 58 CLKGND (power) "Ground return for internal clock buffer", 61 CLKVDD (power) "Internal clock buffer supply voltage", 64 CLKGND (power) "Ground return for internal clock buffer", 65 PLLGND (power) "Ground return for internal PLL", 67 PLLVDD (power) "PLL supply voltage. When PLLVDD is 0 V, the PLL is disabled.", 68 DVDD (power) "Digital supply voltage", 69 DGND (power) "Digital ground return", 79 IOGND (power) "Digital I/O ground return", 80 IOVDD (power) "Digital I/O supply voltage", 81 DGND (power) "Digital ground return", 82 DVDD (power) "Digital supply voltage", 88 DGND (power) "Digital ground return", 89 DVDD (power) "Digital supply voltage", 93 DGND (power) "Digital ground return", 99 DGND (power) "Digital ground return", 100 DVDD (power) "Digital supply voltage", 101 EP